# Altium integrated library recom.IntLib: 9 symbols
Pins are listed as number, name and electrical type; pins without a type are passive.

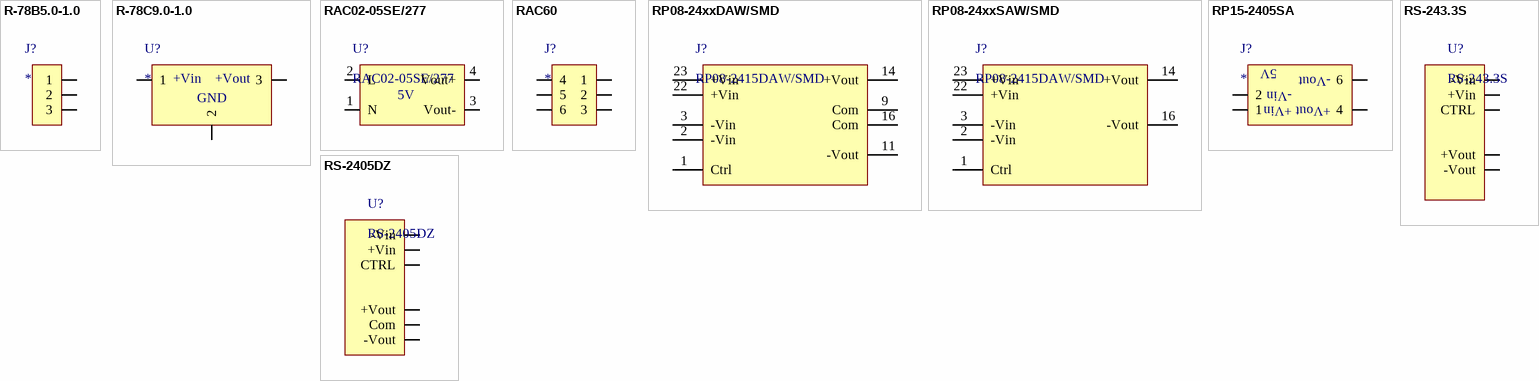
[diagram p0: symbols R-78B5.0-1.0 to RS-2405DZ]

## R-78B5.0-1.0
designator J?
Screw Terminal, 3 Pin
footprint R-78B5.0-1.0 (6.5 to 34 Vdc In, 5 Vdc Out)
pins: 1, 2, 3

## R-78C9.0-1.0
designator U?
Recom, DC-DC Converter
footprint R-78Cx-1.0 (12 to 42 Vdc In, 9 Vdc Out)
pins: 1, 2, 3
text: +Vin; +Vout; GND

## RAC02-05SE/277
designator U?
85-260 Vac to 5 Vdc
footprint RAC02
pins: 1 N, 2 L, 3 Vout-, 4 Vout+
text: 5V

## RAC60
designator J?
85-260 Vac to 24 Vdc
footprint RAC60
pins: 1, 2, 3, 4, 5, 6

## RP08-24xxDAW/SMD
designator J?, comment RP08-2415DAW/SMD
Isolated Module DC DC Converter 2 Output 15V -15V 267mA, 267mA 9V - 36V Input
footprint Model Name (Footprint not found)
footprint RP08-xxxxAW/SMD
pins: 1 Ctrl, 2 -Vin, 3 -Vin, 9 Com, 11 -Vout, 14 +Vout, 16 Com, 22 +Vin, 23 +Vin

## RP08-24xxSAW/SMD
designator J?, comment RP08-2415DAW/SMD
Isolated Module DC DC Converter 2 Output 15V -15V 267mA, 267mA 9V - 36V Input
footprint Model Name (Footprint not found)
footprint RP08-xxxxAW/SMD
pins: 1 Ctrl, 2 -Vin, 3 -Vin, 14 +Vout, 16 -Vout, 22 +Vin, 23 +Vin

## RP15-2405SA
designator J?
85-260 Vac to 24 Vdc
footprint RP15 (Recom RP15 Series Supply)
pins: 1, 2, 4, 6
text: 5V; -Vout; -Vin; +Vin; +Vout

## RS-243.3S
designator U?
3.3 V Supply
footprint RS3-243.3s (3.3V Supply)
pins: 1 -Vin, 2 +Vin, 3 CTRL, 6 +Vout, 7 -Vout

## RS-2405DZ
designator U?
+/- 5V Supply
footprint RS3-243.3s (3.3V Supply)
pins: 1 -Vin, 2 +Vin, 3 CTRL, 6 +Vout, 7 Com, 8 -Vout